# Altium footprint library Revo_element.PcbLib: 178 footprints (part 12 of 12)
Each footprint in its own frame and in the unit in brackets; x right, y up, seen from the top. Pads: shape width x height; smd on the part's side, far side on the other; paste and mask are expansions set on the pad; w line width, h text height; cw(c..) or ccw(c..) is an arc to the next point about the centre after c.
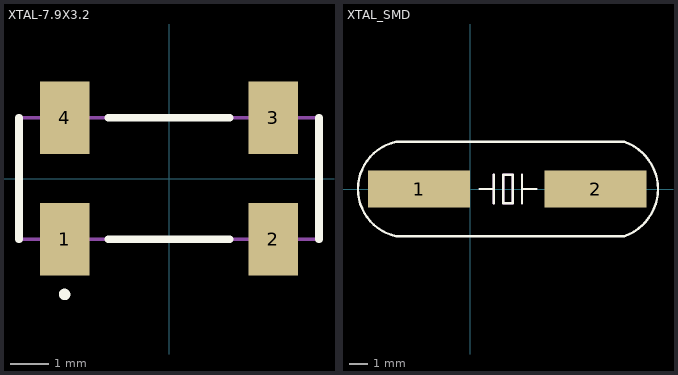
[diagram p11: the footprints below, top view; thin cyan lines are the x and y axes]

## XTAL-7.9X3.2 [mm]
pads (4):
  rect 1.3x1.9 smd: 1(-2.75,-1.6) 2(2.75,-1.6) 3(2.75,1.6) 4(-2.75,1.6)
Top Overlay:
  lines w0.2: -2.75,-3.1 ccw(c-2.75,-3.05) -2.75,-3 ; -2.75,-3.1 cw(c-2.75,-3.05) -2.75,-3 ; -2.75,-3.1 ccw(c-2.75,-3.05) -2.75,-3 ; -3.95,-1.6 -3.95,1.6 -3.95,-1.6 ; -1.6,-1.6 1.6,-1.6 -1.6,-1.6 ; -1.6,1.6 1.6,1.6 -1.6,1.6 ; 3.95,-1.6 3.95,1.6 3.95,-1.6
Mechanical 13:
  lines w0.1: -3.95,-1.6 3.95,-1.6 3.95,1.6 -3.95,1.6 -3.95,-1.6
3D body "G43270018.stp": height 2.7, standoff 0, extent -3.95,-2.42 3.95,2.42

## XTAL_SMD [mm]
pads (2):
  rect 5.5x2 smd: 1(-2.75,0) 2(6.75,0)
Top Overlay:
  lines w0.127: 0.508,0 1.27,0 ; 1.27,-0.762 1.27,0.762 ; 2.794,-0.762 2.794,0.762 ; 2.794,0 3.556,0 ; -4,-2.54 cw(c-3.444,0) -4,2.54 8.3,2.54 cw(c7.432,0) 8.3,-2.54 -4,-2.54 ; 1.778,-0.762 2.286,-0.762 2.286,0.762 1.778,0.762 1.778,-0.762
Mechanical 1:
  lines w0.127: 0.508,0 1.27,0 ; 1.27,-0.762 1.27,0.762 ; 2.794,-0.762 2.794,0.762 ; 2.794,0 3.556,0 ; 1.778,-0.762 2.286,-0.762 2.286,0.762 1.778,0.762 1.778,-0.762